# Altium footprint library PcbLib1.PcbLib: 6 footprints
Each footprint in its own frame and in the unit in brackets; x right, y up, seen from the top. Pads: shape width x height; smd on the part's side, far side on the other; paste and mask are expansions set on the pad; w line width, h text height; cw(c..) or ccw(c..) is an arc to the next point about the centre after c.
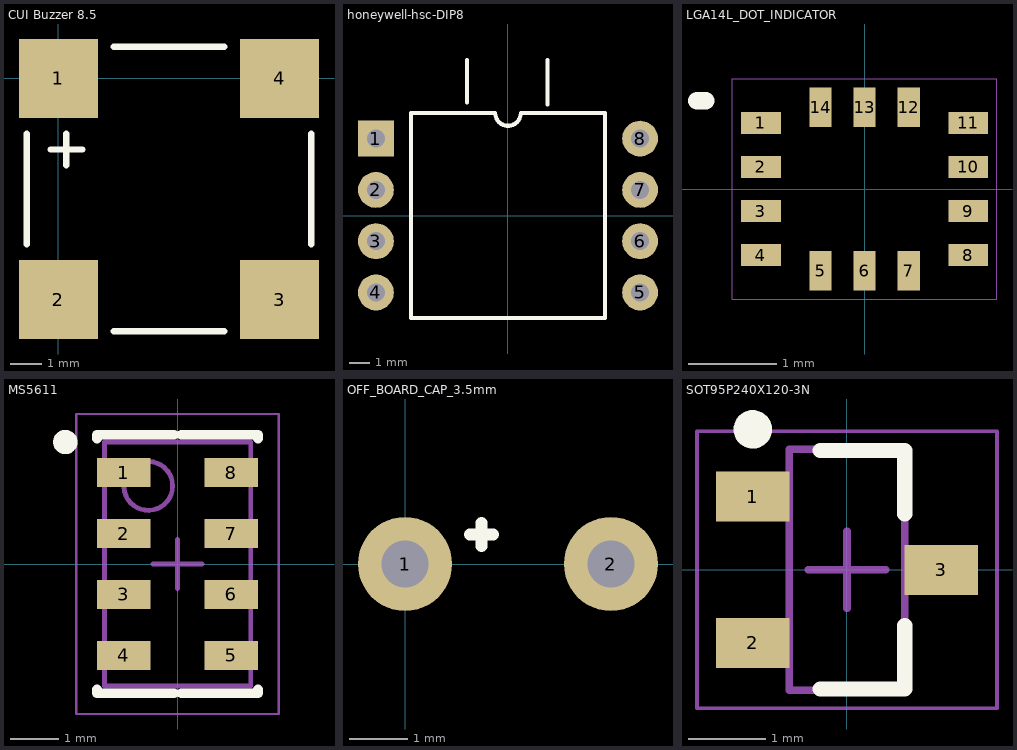
[diagram p0: the footprints below, top view; thin cyan lines are the x and y axes]

## CUI Buzzer 8.5 [mm]
pads (4):
  rect 2.5x2.5 smd: 1(0,0) 2(0,-7) 3(7,-7) 4(7,0)
Top Overlay:
  lines w0.2: -1,-5.25 -1,-1.75 ; -0.25,-2.25 0.75,-2.25 ; 0.25,-2.75 0.25,-1.75 ; 1.75,-8 5.25,-8 ; 1.75,1 5.25,1 ; 8,-5.25 8,-1.75
3D body "css-j4b20-smt.stp": height 3.2, standoff 0, extent -0.75,-7.75 7.75,0.75

## honeywell-hsc-DIP8 [mil]
pads (8):
  rect 70x70 hole 35: 1(-257.5,150)
  round 70 hole 35: 2(-257.5,50) 3(-257.5,-50) 4(-257.5,-150) 5(257.5,-150) 6(257.5,-50) 7(257.5,50) 8(257.5,150)
Top Overlay:
  lines w7.87: -80.33,220.87 -80.33,303.54 ; 77.15,216.93 77.15,303.54
  lines w8: -189.5,-200 -189.5,200 -25,200 ccw(c0,200) 25,200 189.5,200 189.5,-200 -189.5,-200
3D body "DIP RR.stp": height 286.85, standoff -154.33, extent -262.93,-196 262.5,309.23

## LGA14L_DOT_INDICATOR [mm] "LGA14L_DOT_INDICATOR"
pads (14):
  rect 0.45x0.25 smd: 1(-1.175,0.75) 2(-1.175,0.25) 3(-1.175,-0.25) 4(-1.175,-0.75) 8(1.175,-0.75) 9(1.175,-0.25) 10(1.175,0.25) 11(1.175,0.75)
  rect 0.25x0.45 smd: 5(-0.5,-0.925) 6(0,-0.925) 7(0.5,-0.925) 12(0.5,0.925) 13(0,0.925) 14(-0.5,0.925)
Top Overlay:
  lines w0.2: -1.9,1 -1.8,1
Mechanical 16:
  lines w0: -1.5,-1.25 -1.5,1.25 1.5,1.25 1.5,-1.25 -1.5,-1.25
3D body: height 0.83, standoff 0.1, extent -1.5,-1.25 1.5,1.25

## MS5611 [mm] "QFN, 8-Leads, Body 3.00x5.00mm, Pitch 1.25mm, Thermal Pad 0.00x0.00mm, IPC Medium Density"
height 1
pads (8):
  rect 1.1x0.6 smd: 1(-1.1,1.875) 2(-1.1,0.625) 3(-1.1,-0.625) 4(-1.1,-1.875) 5(1.1,-1.875) 6(1.1,-0.625) 7(1.1,0.625) 8(1.1,1.875)
Top Overlay:
  circle w0.25: c-2.3,2.5 r0.125
  lines w0.2: -1.65,-2.575 -1.65,-2.65 -0.075,-2.65 ; -1.65,2.575 -1.65,2.65 -0.075,2.65 ; 0.075,-2.65 1.65,-2.65 1.65,-2.575 ; 0.075,2.65 1.65,2.65 1.65,2.575
Mechanical 13:
  circle w0.1: c-0.6,1.6 r0.5
  lines w0.1: -1.5,-2.5 1.5,-2.5 1.5,2.5 -1.5,2.5 -1.5,-2.5
Mechanical 15:
  lines w0.05: -2.075,-3.075 2.075,-3.075 2.075,3.075 -2.075,3.075 -2.075,-3.075
  lines w0.1: -0.5,0 0.5,0 ; 0,-0.5 0,0.5
3D body: height 1, standoff 0.01, extent -1.5,-2.5 1.5,2.5

## OFF_BOARD_CAP_3.5mm [mm]
pads (2):
  round 1.6 hole 0.8: 1(0,0) 2(3.5,0)
Top Overlay:
  lines w0.2: 1.1,0.5 1.5,0.5 ; 1.3,0.3 1.3,0.7

## SOT95P240X120-3N [mm] "SOT23, 3-Leads, Body 2.93x2.40mm, Pitch 0.95mm, IPC Medium Density"
height 1.2
pads (3):
  rect 0.95x0.65 smd: 1(-1.225,0.95) 2(-1.225,-0.95) 3(1.225,0)
Top Overlay:
  circle w0.25: c-1.225,1.825 r0.125
  lines w0.2: -0.35,-1.55 0.75,-1.55 0.75,-0.725 ; -0.35,1.55 0.75,1.55 0.75,0.725
Mechanical 13:
  lines w0.1: -0.75,-1.565 -0.75,1.565 0.75,1.565 0.75,-1.565 -0.75,-1.565
Mechanical 15:
  lines w0.05: -1.95,-1.8 -1.95,1.8 1.95,1.8 1.95,-1.8 -1.95,-1.8
  lines w0.1: -0.5,0 0.5,0 ; 0,-0.5 0,0.5
3D body: height 1.2, standoff 0.1, extent -0.75,-1.565 0.75,1.565